# Altium integrated library CMR_ICs.IntLib: 74 symbols
Pins are listed as number, name and electrical type; pins without a type are passive.

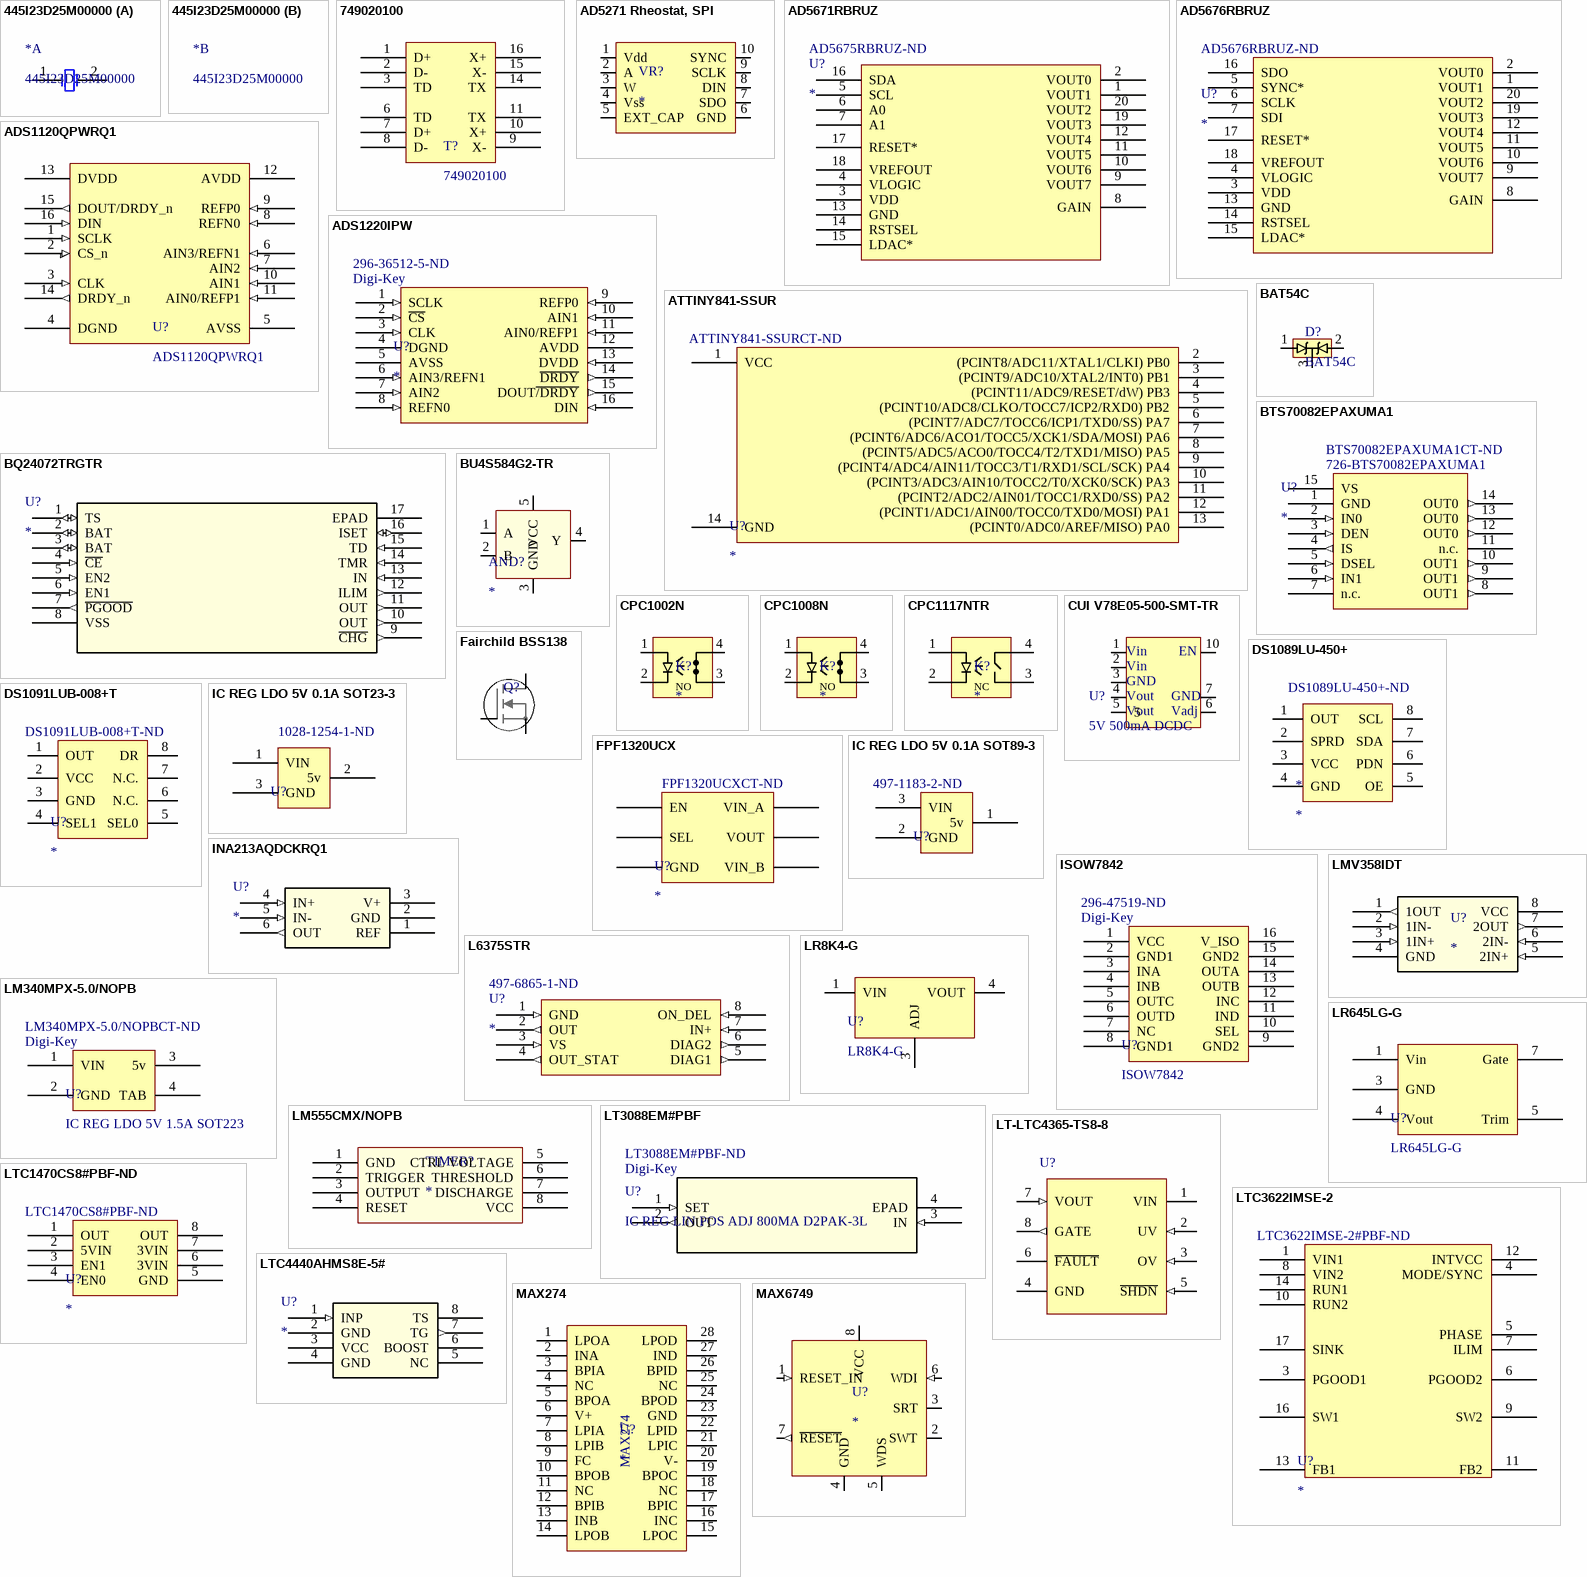
[diagram p0: symbols 445I23D25M00000 to MAX6749]

## 445I23D25M00000
designator *
CTS M445 2-SMT Crystal, 25MHz; Manufacturer: CTS-Frequency Controls; Supplier 1: Mouser; Supplier 2: Digi-Key; Supplier 3: Digi-Key; Supplier 4: Digi-Key; Frequency: 25 MHz; Part Number: 445I23D25M00000; Supplier 5: Digi-Key; Supplier 6: Mouser; Supplier 7: Digi-Key; Supplier 8: Digi-Key; Supplier Part Number 5: CTX1175TR-ND; Supplier Part Number 6: 774-445I23D25M00000; Supplier Part Number 7: CTX1175CT-ND; Supplier Part Number 8: CTX1175DKR-ND
footprint 445I23D25M00000 (2-SMD 5x3.2)
part A pins: 1, 2

## 749020100
designator T?
10/100/1000 SMD LAN Transformer; Manufacturer: Wurth; Part Number: 749020100; Supplier 1: Digi-Key; Supplier Part Number 1: 732-3268-1-ND
footprint 749020100 (10/100/1000 SMD LAN Transformer)
pins: 1 D+, 2 D-, 3 TD, 6 TD, 7 D+, 8 D-, 9 X-, 10 X+, 11 TX, 14 TX, 15 X-, 16 X+

## AD5271 Rheostat, SPI
designator VR?
100k Digital Rheostat, 256 Pos, 1% Tolerance; Part Number: AD5271BRMZ-100; Temp (C) (min): -40; Temp (C) (max): 125; Package: MSOP-10; Nominal Resistance: 100k; Datasheet URL: http://www.analog.com/media/en/technical-documentation/data-sheets/AD5270_5271.pdf; Supplier 1: Digi-Key; Supplier Part Number 1: AD5271BRMZ-100-ND
footprint 10-Lead MSOP (used for AD5271BRMZ)
pins: 1 Vdd (power), 2 A, 3 W, 4 Vss, 5 EXT_CAP, 6 GND (power), 7 SDO, 8 DIN, 9 SCLK, 10 SYNC

## AD5671RBRUZ
designator U?  Supplier Part Number 1: AD5675RBRUZ-ND
IC DAC 16BIT I2C/SRL 20TSSOP; Value: Value; Type: Type; RefDes: RefDes; Supplier 1: Digi-Key
footprint RU_20
pins: 1 VOUT1, 2 VOUT0, 3 VDD, 4 VLOGIC, 5 SCL, 6 A0, 7 A1, 8 GAIN, 9 VOUT7, 10 VOUT6, 11 VOUT5, 12 VOUT4, 13 GND, 14 RSTSEL, 15 LDAC*, 16 SDA, 17 RESET*, 18 VREFOUT, 19 VOUT3, 20 VOUT2

## AD5676RBRUZ
designator U?  Supplier Part Number 1: AD5676RBRUZ-ND
IC DAC 16BIT SPI 20TSSOP; Supplier 1: Digi-Key
footprint RU_20
pins: 1 VOUT1, 2 VOUT0, 3 VDD, 4 VLOGIC, 5 SYNC*, 6 SCLK, 7 SDI, 8 GAIN, 9 VOUT7, 10 VOUT6, 11 VOUT5, 12 VOUT4, 13 GND, 14 RSTSEL, 15 LDAC*, 16 SDO, 17 RESET*, 18 VREFOUT, 19 VOUT3, 20 VOUT2

## ADS1120QPWRQ1
designator U?
16 bit SPI controlled ADC; Manufacturer: Texas Instruments; Part Number: ADS1120QPWRQ1; Datasheet Link: http://www.ti.com/lit/ds/symlink/ads1120-q1.pdf; Supplier 1: Digi-Key; Supplier Part Number 1: 296-39850-1-ND
footprint TSOP65P640X120-16N (TSOP, 16-Leads, Body 5.00x4.40mm, Pitch 0.65mm, IPC Medium Density)
pins: 1 SCLK (in), 2 CS_n (in), 3 CLK (in), 4 DGND (power), 5 AVSS (power), 6 AIN3/REFN1 (in), 7 AIN2 (in), 8 REFN0 (in), 9 REFP0 (in), 10 AIN1 (in), 11 AIN0/REFP1 (in), 12 AVDD (power), 13 DVDD (power), 14 DRDY_n (out), 15 DOUT/DRDY_n (out), 16 DIN (in)

## ADS1220IPW
designator U?  Supplier 1: Digi-Key  Supplier Part Number 1: 296-36512-5-ND
footprint ADS1220IPW
pins: 1 SCLK (in), 2 ~{CS} (in), 3 CLK (in), 4 DGND (power), 5 AVSS (power), 6 AIN3/REFN1 (in), 7 AIN2 (in), 8 REFN0 (in), 9 REFP0 (in), 10 AIN1 (in), 11 AIN0/REFP1 (in), 12 AVDD (power), 13 DVDD (in), 14 ~{DRDY} (out), 15 DOUT~{/DRDY} (out), 16 DIN (in)

## ATTINY841-SSUR
designator U?  Supplier Part Number 1: ATTINY841-SSURCT-ND
IC MCU 8BIT 8KB FLASH 14SOIC; Supplier 1: Digi-Key
footprint SOIC127P600X175-14N-841 (SOIC, 14-Leads, Body 8.65x3.90mm, Pitch 1.27mm, IPC Medium Density)
pins: 1 VCC, 2 (PCINT8/ADC11/XTAL1/CLKI) PB0, 3 (PCINT9/ADC10/XTAL2/INT0) PB1, 4 (PCINT11/ADC9/RESET/dW) PB3, 5 (PCINT10/ADC8/CLKO/TOCC7/ICP2/RXD0) PB2, 6 (PCINT7/ADC7/TOCC6/ICP1/TXD0/SS) PA7, 7 (PCINT6/ADC6/ACO1/TOCC5/XCK1/SDA/MOSI) PA6, 8 (PCINT5/ADC5/ACO0/TOCC4/T2/TXD1/MISO) PA5, 9 (PCINT4/ADC4/AIN11/TOCC3/T1/RXD1/SCL/SCK) PA4, 10 (PCINT3/ADC3/AIN10/TOCC2/T0/XCK0/SCK) PA3, 11 (PCINT2/ADC2/AIN01/TOCC1/RXD0/SS) PA2, 12 (PCINT1/ADC1/AIN00/TOCC0/TXD0/MOSI) PA1, 13 (PCINT0/ADC0/AREF/MISO) PA0, 14 GND

## BAT54C
designator D?
Schottky Barrier Diode BAT54C; Temp (C) (min): -40; Temp (C) (max): 85; Package: SOT23; Datasheet URL: http://www.nxp.com/documents/data_sheet/BAT54_SER.pdf; Part Number: BAT54C; Supplier 1: Digi-Key; Supplier Part Number 1: 568-11590-1-ND
footprint SOT23 (used with BAT54C diode array)
pins: 1 Cathode Diode 1, 2 Cathode Diode 2, 3 Common

## BQ24072TRGTR
designator U?
Imported; Manufacturer: Texas Instruments; Manufacturer_Part_Number: BQ24072TRGTR; Built_By: EMA_UL_Team; C: Copyright (C) 2015 Accelerated Designs. All rights reserved; Vendor: Vendor; RefDes: RefDes; Type: DEV; Value: Value
footprint RGT16_1P7X1P7
pins: 1 TS (io), 2 BAT (io), 3 BAT (io), 4 ~{CE} (in), 5 EN2 (in), 6 EN1 (in), 7 ~{PGOOD} (out), 8 VSS (power), 9 ~{CHG} (out), 10 OUT (out), 11 OUT (out), 12 ILIM (out), 13 IN (in), 14 TMR (in), 15 TD (in), 16 ISET (io), 17 EPAD (power)

## BTS70082EPAXUMA1
designator U?  Supplier Part Number 1: 726-BTS70082EPAXUMA1  Supplier Part Number 2: BTS70082EPAXUMA1CT-ND
IC HIGH SIDE PWR SWITCH 14TSOP; Supplier 1: Mouser; Supplier 2: Digi-Key
footprint BTS70082EPAXUMA1CT (TSOP, 14-Leads, Body 4.90x3.90mm, Pitch 0.65mm, Thermal Pad 4.00x2.65mm, IPC Medium Density)
pins: 1 GND (power), 2 IN0 (in), 3 DEN (in), 4 IS (out), 5 DSEL (in), 6 IN1 (in), 7 n.c. (hiz), 8 OUT1 (out), 9 OUT1 (out), 10 OUT1 (out), 11 n.c. (hiz), 12 OUT0 (out), 13 OUT0 (out), 14 OUT0 (out), 15 VS (power)

## BU4S584G2-TR
designator AND?
footprint SOTFL95P280X125-5N (SOTFL, 5-Leads, Body 2.90x2.80mm, Pitch 0.95mm, IPC Medium Density)
pins: 1 A, 2 B, 3 GND, 4 Y, 5 VCC

## CPC1002N
designator K?
SPST NO SSR, 700mA / 60Vdc rated CPC1002N; Nominal Resistance: 550 mOhm; Temp (C) (min): -40; Temp (C) (max): 85; Package: SOP-4; Datasheet URL: http://www.ixysic.com/home/pdfs.nsf/www/CPC1002N.pdf/$file/CPC1002N.pdf; Part Number: CPC1002N; Supplier 1: Digi-Key; Supplier Part Number 1: CLA221-ND
footprint SOP4 (used for CPC1117N NC SSR)
pins: 1 CTRL+, 2 CTRL-, 3 Load_3, 4 LOAD_4
text: NO

## CPC1008N
designator K?
SPST NO SSR, 150mA / 100V rated CPC1008N; Nominal Resistance: 8; Temp (C) (min): -40; Temp (C) (max): 85; Package: SOP-4; Datasheet URL: http://www.clare.com/home/pdfs.nsf/www/CPC1008N.pdf/$file/CPC1008N.pdf; Supplier 1: Digi-Key; Supplier Part Number 1: CLA216CT-ND; Part Number: CPC1008N
footprint SOP4 (used for CPC1117N NC SSR)
pins: 1 CTRL+, 2 CTRL-, 3 Load_3, 4 LOAD_4
text: NO

## CPC1117NTR
designator K?
SPST NC SSR, 150mA / 60V rated CPC1117NTR; Nominal Resistance: 16; Temp (C) (min): -40; Temp (C) (max): 85; Package: SOP-4; Datasheet URL: http://www.clare.com/home/pdfs.nsf/www/CPC1117N.pdf/$file/CPC1117N.pdf; Supplier 1: Digi-Key; Supplier Part Number 1: CLA268CT-ND; Part Number: CPC1117NTR
footprint SOP4 (used for CPC1117N NC SSR)
pins: 1 CTRL+, 2 CTRL-, 3 Load_3, 4 LOAD_4
text: NC

## CUI V78E05-500-SMT-TR
designator U?, comment 5V 500mA DCDC
5V 500mA DCDC Module; ComponentLink1Description: digikey; ComponentLink1URL: https://www.digikey.com/product-detail/en/cui-inc/V78E05-500-SMT-TR/102-5025-1-ND/9649676
footprint V78E05-500-SMT-TR
pins: 1, 2, 3, 4, 5, 6, 7, 10
text: Vin; EN; GND; Vout; Vadj

## DS1089LU-450+
designator *  Supplier Part Number 1: DS1089LU-450+-ND
IC ECONOSCILL 3.3V SS 8-USOP; Manufacturer: Maxim Integrated; Manufacturer Part Number: DS1089LU-450+; PLL: No; Input: Clock; Number of Circuits: 1; Ratio - Input:Output: 1:1; Differential - Input:Output: No/No; Frequency - Max: 50MHz; Divider/Multiplier: Yes/No; Voltage - Supply: 2.7 V ~ 3.6 V; Supplier 1: Digi-Key; RoHS: RoHS Compliant; Category: Integrated Circuits (ICs); Stock 1: 43; Pricing 1: 1=1.86, 10=1.767, 25=1.46, 50=1.387, 250=1.33948, 1000=1.13832 (USD); Packaging: Tube; Part Status: Active; Type: Clock Generator; Output: Clock; Operating Temperature: -40°C ~ 85°C; Mounting Type: Surface Mount; Package / Case: 8-TSSOP, 8-MSOP (0.118", 3.00mm Width); Supplier Device Package: 8-uMAX; ComponentLink1URL: http://datasheets.maximintegrated.com/en/ds/DS1089L.pdf; ComponentLink1Description: http://datasheets.maximintegrated.com/en/ds/DS1089L.pdf
footprint TSOP65P490X110-8L (TSOP, 8-Leads, Body 3.00x3.00mm, Pitch 0.65mm, IPC High Density)
pins: 1 OUT, 2 SPRD, 3 VCC, 4 GND, 5 OE, 6 PDN, 7 SDA, 8 SCL

## DS1091LUB-008+T
designator U?  Supplier Part Number 1: DS1091LUB-008+T-ND
IC ECONOSCILLATOR SS 8USOP; Supplier 1: Digi-Key
footprint TSOP65P490X110-8L (TSOP, 8-Leads, Body 3.00x3.00mm, Pitch 0.65mm, IPC High Density)
pins: 1 OUT, 2 VCC, 3 GND, 4 SEL1, 5 SEL0, 6 N.C., 7 N.C., 8 DR

## Fairchild BSS138
designator Q?
N-channel MOSFET, logic level
footprint SOT-23-Fairchild
pins: D, G, S
1 alternate drawing of the same symbol

## FPF1320UCX
designator U?  Supplier Part Number 1: FPF1320UCXCT-ND
IC ADVANCED POWER SWITCH 6WLCSP; Supplier 1: Digi-Key
footprint BGA6C50P2X3_96X146X54 (BGA, 6-Leads, Body 0.96x1.46mmx0.54mm, Pitch 0.50mm)
pins: A1 EN, A2 VIN_A, B1 SEL, B2 VOUT, C1 GND, C2 VIN_B

## IC REG LDO 5V 0.1A SOT23-3
designator U?  Supplier Part Number 1: 1028-1254-1-ND  (hidden comment: IC REG LDO 5V 0.1A SOT23-3)
Supplier 1: Digi-Key
footprint SOT95P245X130-3N (SOT23, 3-Leads, Body 2.90x2.45mm, Pitch 0.95mm, IPC Medium Density)
pins: 1 VIN, 2 5v, 3 GND

## IC REG LDO 5V 0.1A SOT89-3
designator U?  Supplier Part Number 1: 497-1183-2-ND  (hidden comment: IC REG LDO 5V 0.1A SOT89-3)
Supplier 1: Digi-Key
footprint SOT89-150P409X160-3N (SOT89, 3-Leads, Body 4.50x2.45mm, Pitch 1.50mm, Lead Span 4.1mm, IPC Medium Density)
pins: 1 5v, 2 GND, 3 VIN

## INA213AQDCKRQ1
designator U?
INA213AQDCKRQ1 50V/V isense; Manufacturer: Texas Instruments; Built_By: EMA_UL_Team; C: Copyright (C) 2015 Accelerated Designs. All rights reserved; Vendor: Texas Instruments; Manufacturer_Part_Number: INA213AQDCKRQ1; RefDes: RefDes; Type: DEV; Value: Value
footprint DCK6
pins: 1 REF (power), 2 GND (power), 3 V+ (power), 4 IN+ (in), 5 IN- (in), 6 OUT (out)

## ISOW7842
designator U?  Supplier 1: Digi-Key  Supplier Part Number 1: 296-47519-ND
High-Efficiency, Low-Emissions, Reinforced Digital Isolator With Integrated Power; Part Number: TXB0106; Part Creator: dgorzigl; Datasheet: http://www.ti.com/lit/ds/symlink/txb0106.pdf
footprint ISOW7842
pins: 1 VCC, 2 GND1, 3 INA, 4 INB, 5 OUTC, 6 OUTD, 7 NC, 8 GND1, 9 GND2, 10 SEL, 11 IND, 12 INC, 13 OUTB, 14 OUTA, 15 GND2, 16 V_ISO

## L6375STR
designator U?  Supplier Part Number 1: 497-6865-1-ND
IC DRIVER HI SIDE 0.5A IPS 8SOIC; Supplier 1: Digi-Key; ComponentLink1Description: DIgikey Link; ComponentLink1URL: https://www.digikey.com/product-detail/en/stmicroelectronics/L6375STR/497-6865-1-ND/1880244
footprint SOIC127P600X175-8N (SOIC, 8-Leads, Body 4.90x3.90mm, Pitch 1.27mm, IPC Medium Density)
pins: 1 GND (in), 2 OUT (out), 3 VS (in), 4 OUT_STAT (out), 5 DIAG1 (out), 6 DIAG2 (out), 7 IN+ (in), 8 ON_DEL (in)

## LM340MPX-5.0/NOPB
designator U?, comment IC REG LDO 5V 1.5A SOT223  Supplier 1: Digi-Key  Supplier Part Number 1: LM340MPX-5.0/NOPBCT-ND
SOT223 5V 1.5A Linear Regulator; ComponentLink1Description: Digikey Link; ComponentLink1URL: https://www.digikey.com/product-detail/en/texas-instruments/LM340MPX-5.0-NOPB/LM340MPX-5.0-NOPBCT-ND/3526959
footprint IC REG LDO 5V 1.5A SOT223 (Linear Voltage Regulator IC Positive Fixed 1 Output 5V 1.5A SOT-223-4)
pins: 1 VIN, 2 GND, 3 5v, 4 TAB

## LM555CMX/NOPB
designator TIMER?
footprint SOIC127P600X175-8N (SOIC, 8-Leads, Body 4.90x3.90mm, Pitch 1.27mm, IPC Medium Density)
pins: 1 GND, 2 TRIGGER, 3 OUTPUT, 4 RESET, 5 CTRL VOLTAGE, 6 THRESHOLD, 7 DISCHARGE, 8 VCC

## LMV358IDT
designator U?
IC OPAMP GP 1.3MHZ 8SO; Manufacturer: STMicroelectronics; Manufacturer_Part_Number: LMV358IDT; Vendor: Digikey; Supplier Part Number: 497-4945-2-ND
footprint SOIC-8
pins: 1 1OUT (out), 2 1IN- (in), 3 1IN+ (in), 4 GND (power), 5 2IN+ (in), 6 2IN- (in), 7 2OUT (out), 8 VCC (power)

## LR8K4-G
designator U?
SMPS Startup Regulator; Manufacturer: Microchip Technology; Voltage-Input: 13.2-450V; Voltage - Output: 1.2-438V; Current - Output: 30mA; Part Number: LR8K4-G; Supplier 1: Digi-Key; Supplier Part Number 1: LR8K4-GCT-ND
footprint TO-252 (D-PAK)
pins: 1 VIN, 3 ADJ, 4 VOUT

## LR645LG-G
designator U?
SMPS Startup Regulator; Manufacturer: Microchip Technology; Voltage-Input: 15-450V; Voltage - Output: 8-12V; Current - Output: 3mA; Part Number: LR645LG-G; Supplier 1: Digi-Key; Supplier Part Number 1: LR645LG-GCT-ND
footprint SOP127P600X175-8N (SOP, 8-Leads, Body 4.90x3.90mm, Pitch 1.27mm, IPC Medium Density)
pins: 1 Vin, 3 GND, 4 Vout, 5 Trim, 7 Gate

## LT3088EM#PBF
designator U?, comment IC REG LIN POS ADJ 800MA D2PAK-3L  Supplier 1: Digi-Key  Supplier Part Number 1: LT3088EM#PBF-ND
Linear Voltage Regulator IC Positive Adjustable 1 Output 0 V ~ 34.5 V 800mA D2PAK-3; Manufacturer_Part_Number: LT3088EM#PBF; Vendor: Linear Technology; Built_By: EMA_UL_Team; RefDes: RefDes; Type: DEV; Value: Value; ComponentLink1Description: Digikey Link; ComponentLink1URL: https://www.digikey.com/product-detail/en/linear-technology-analog-devices/LT3088EM-PBF/LT3088EM-PBF-ND/5297581
footprint DDPAK-3_M
pins: 1 SET (in), 2 OUT (out), 3 IN (in), 4 EPAD

## LT-LTC4365-TS8-8
designator U?
IC, Overvoltage Protection, Undervoltage Protection; Supplier 1: Digi-Key; Supplier 2: Digi-Key; Supplier 3: Digi-Key; Supplier Part Number 1: LTC4365ITS8-1#TRMPBFCT-ND; Supplier Part Number 2: LTC4365ITS8-1#TRMPBFDKR-ND; Supplier Part Number 3: LTC4365ITS8-1#TRMPBFTR-ND
footprint LT-TS8-8-TSOT-23_V (SOT23, 8-Leads, Body 2.90x1.63mm, Pitch 0.65mm, Recommended)
pins: 1 VIN (power) "Power Supply Input. Maximum protection range: -40V to 60V. Operating range: 2.5V to 34V.", 2 UV (in) "Undervoltage Comparator Input. Connect this pin to an external resistive divider to set the desired VIN undervoltage fault threshold. Input to an accurate, fast (1us) comparator with a 0.5V falling threshold and 25mV of (See Datasheet)", 3 OV (in) "Overvoltage Comparator Input. Connect this pin to an external resistive divider to set the desired VIN overvoltage fault threshold. Input to an accurate, fast (1us) comparator with a 0.5V rising threshold and 25mV of (See Datasheet)", 4 GND (power) "Device Ground", 5 ~{SHDN} (in) "Shutdown Control Input. S\H\D\N\ high enables the GATE charge pump which in turn enhances the gate of an external N-channel MOSFET. A low on S\H\D\N\ generates a pull down on the GATE output with a 90uA current sink and (See Datasheet)", 6 ~{FAULT} (oc) "Fault Indication Output. This high voltage open drain output is pulled low if UV is below its monitor threshold, if OV is above its monitor threshold, if S\H\D\N\ is low, or if VIN has not risen above VIN(UVLO).", 7 VOUT (in) "Output Voltage Sense Input. This pin senses the voltage at the output side of the external N-channel MOSFET. The GATE charge pump voltage is referenced to VOUT. It is used as the charge pump input when VOUT is greater than (See Datasheet)", 8 GATE (out) "Gate Drive Output for External N-channel MOSFETs. An internal charge pump provides 20uA of pull-up current and up to 9.8V of enhancement to the gate of an external N-channel MOSFET When turned off, GATE is pulled just below (See Datasheet)"

## LTC1470CS8#PBF-ND
designator U?  Supplier Part Number 1: LTC1470CS8#PBF-ND
IC SWTCH PCMCIA3.3V/5V SNGL8SOIC; Supplier 1: Digi-Key
footprint SOIC127P600X175-8N-L (SOIC, 8-Leads, Body 4.90x3.90mm, Pitch 1.27mm, IPC Medium Density)
pins: 1 OUT, 2 5VIN, 3 EN1, 4 EN0, 5 GND, 6 3VIN, 7 3VIN, 8 OUT

## LTC3622IMSE-2
designator U?  Supplier Part Number 1: LTC3622IMSE-2#PBF-ND
IC REG BCK 3.3V/5V 1A SYNC 14DFN; Supplier 1: Digi-Key
footprint LT-MSE-16-EDP_L (SOP, 16-Leads, Body 4.1x3.1mm, Pitch 0.5mm, Thermal Pad 2.95x1.76mm, IPC High Density)
pins: 1 VIN1, 3 PGOOD1, 4 MODE/SYNC, 5 PHASE, 6 PGOOD2, 7 ILIM, 8 VIN2, 9 SW2, 10 RUN2, 11 FB2, 12 INTVCC, 13 FB1, 14 RUN1, 16 SW1, 17 SINK

## LTC4440AHMS8E-5#
designator U?
https://www.digikey.com/product-detail/en/linear-technology-analog-devices/LTC4440AHMS8E-5-PBF/LTC4440AHMS8E-5-PBF-ND/4437928; Manufacturer_Part_Number: LTC4440AHMS8E-5#PBF; Vendor: Linear Technology; Built_By: EMA_UL_Team; RefDes: RefDes; Type: DEV; Value: Value
footprint MSOP-8_MS
pins: 1 INP (in), 2 GND (power), 3 VCC (power), 4 GND (power), 5 NC, 6 BOOST, 7 TG (out), 8 TS

## MAX274
designator U?
footprint SOP28W
pins: 1 LPOA, 2 INA, 3 BPIA, 4 NC, 5 BPOA, 6 V+, 7 LPIA, 8 LPIB, 9 FC, 10 BPOB, 11 NC, 12 BPIB, 13 INB, 14 LPOB, 15 LPOC, 16 INC, 17 BPIC, 18 NC, 19 BPOC, 20 V-, 21 LPIC, 22 LPID, 23 GND, 24 BPOD, 25 NC, 26 BPID, 27 IND, 28 LPOD

## MAX6749
designator U?
uP Supervisor / Watchdog, MAX6749; Temp (C) (min): -40; Temp (C) (max): 125; Package: SOT23; Datasheet URL: http://datasheets.maximintegrated.com/en/ds/MAX6746-MAX6753.pdf; Supplier 1: Digi-Key; Supplier Part Number 1: MAX6749KA+TCT-ND
footprint 8 SOT23 (used for MAX6749)
pins: 1 RESET_IN (in), 2 SWT, 3 SRT, 4 GND (power), 5 WDS (power), 6 WDI (in), 7 ~{RESET} (out), 8 VCC (power)

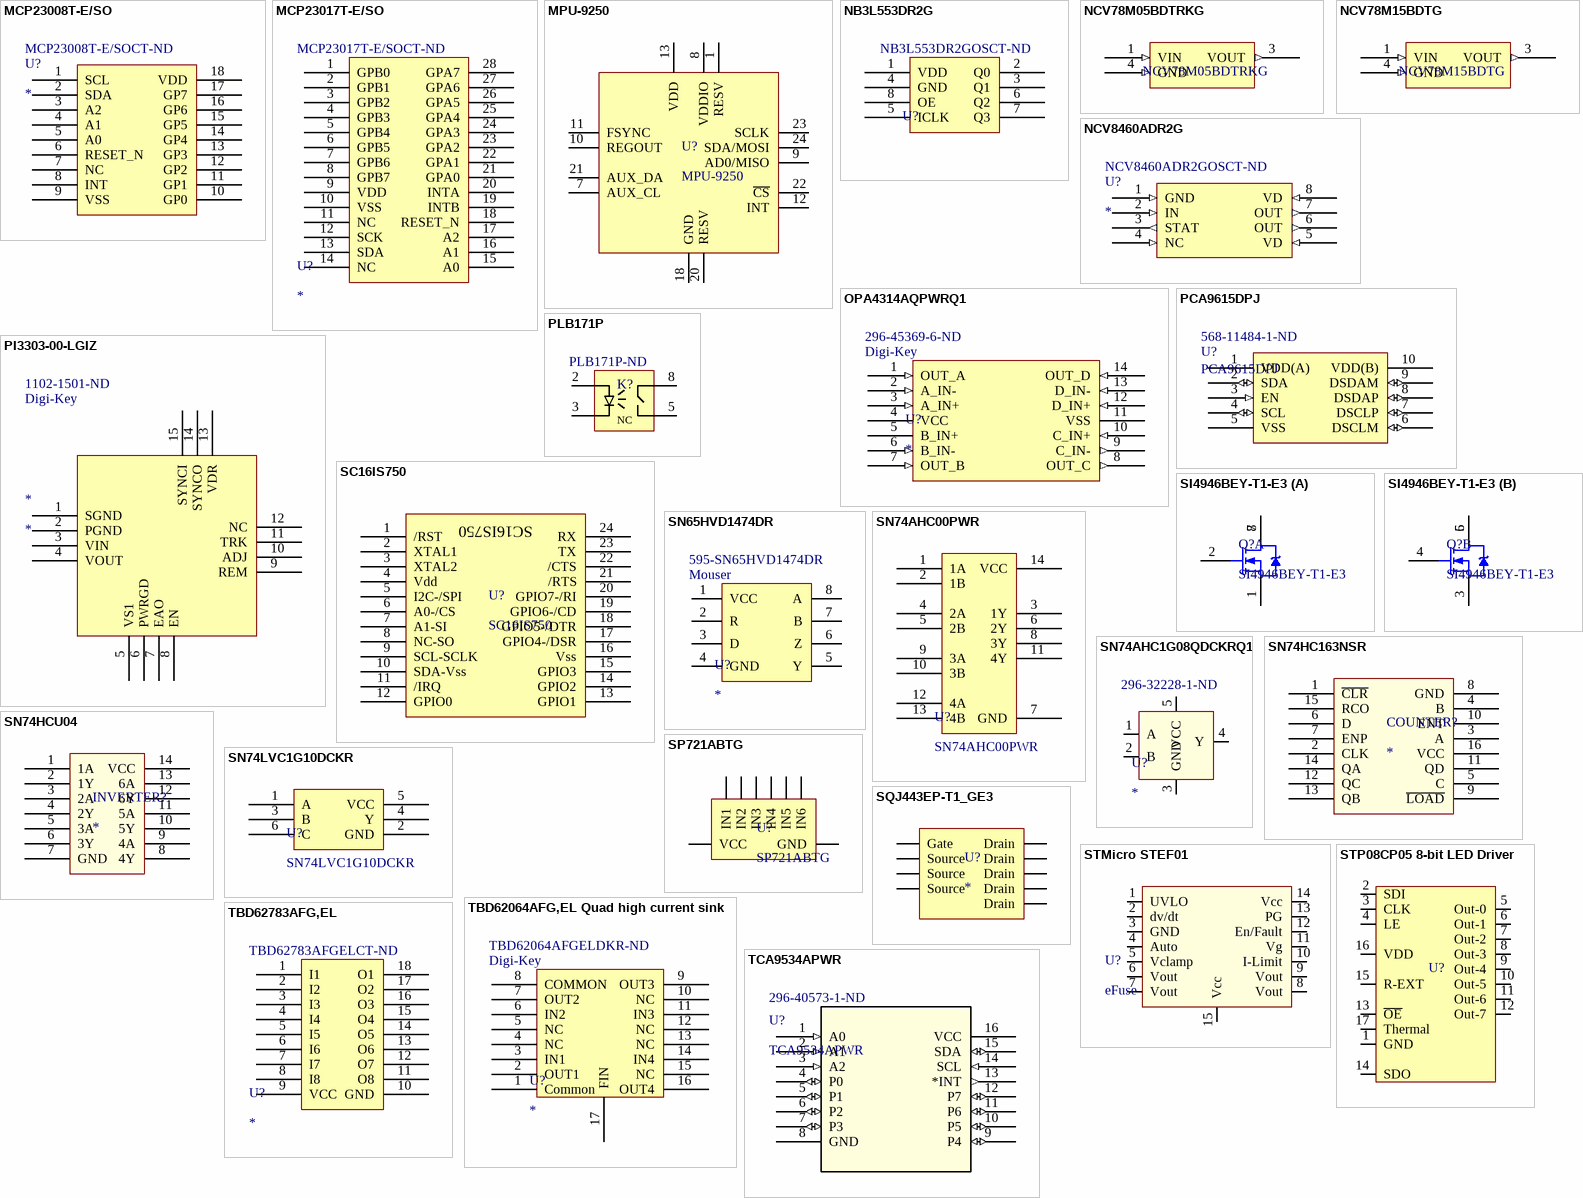
[diagram p1: symbols MCP23008T-E/SO to TCA9534APWR]

## MCP23008T-E/SO
designator U?  Supplier Part Number 1: MCP23008T-E/SOCT-ND
IC I/O EXPANDER I2C 8B 18SOIC; Supplier 1: Digi-Key
footprint SOIC127P1030X265-18N (SOIC, 18-Leads, Body 11.55x7.50mm, Pitch 1.27mm, IPC Medium Density)
pins: 1 SCL, 2 SDA, 3 A2, 4 A1, 5 A0, 6 RESET_N, 7 NC, 8 INT, 9 VSS, 10 GP0, 11 GP1, 12 GP2, 13 GP3, 14 GP4, 15 GP5, 16 GP6, 17 GP7, 18 VDD

## MCP23017T-E/SO
designator U?  Supplier Part Number 1: MCP23017T-E/SOCT-ND
IC I/O EXPANDER I2C 16B 28SOIC; Supplier 1: Digi-Key
footprint SOIC127P1030X265-28N (SOIC, 28-Leads, Body 17.90x7.50mm, Pitch 1.27mm, IPC Medium Density)
pins: 1 GPB0, 2 GPB1, 3 GPB2, 4 GPB3, 5 GPB4, 6 GPB5, 7 GPB6, 8 GPB7, 9 VDD, 10 VSS, 11 NC, 12 SCK, 13 SDA, 14 NC, 15 A0, 16 A1, 17 A2, 18 RESET_N, 19 INTB, 20 INTA, 21 GPA0, 22 GPA1, 23 GPA2, 24 GPA3, 25 GPA4, 26 GPA5, 27 GPA6, 28 GPA7

## MPU-9250
designator U?
InvenSense MPU-9250 9-axis IMU; Component Author: semerson; Datasheet: http://43zrtwysvxb2gf29r5o0athu.wpengine.netdna-cdn.com/wp-content/uploads/2015/02/MPU-9250-Datasheet.pdf; Manufacturer: InvenSense; Supplier 1: Digi-Key; Supplier Part Number 1: 1428-1019-1-ND
footprint MPU-9250 (InvenSense MPU-9250 9-axis IMU)
pins: 1 RESV, 7 AUX_CL, 8 VDDIO, 9 AD0/MISO, 10 REGOUT, 11 FSYNC, 12 INT, 13 VDD, 18 GND, 20 RESV, 21 AUX_DA, 22 ~{CS}, 23 SCLK, 24 SDA/MOSI

## NB3L553DR2G
designator U?  Supplier Part Number 1: NB3L553DR2GOSCT-ND
IC CLK BUFFER 1:4 200MHZ 8SOIC; Supplier 1: Digi-Key
footprint SOIC127P600X175-8N-L (SOIC, 8-Leads, Body 4.90x3.90mm, Pitch 1.27mm, IPC Medium Density)
pins: 1 VDD, 2 Q0, 3 Q1, 4 GND, 5 ICLK, 6 Q2, 7 Q3, 8 OE

## NCV78M05BDTRKG
designator NCV78M05BDTRKG  (value not drawn)
http://www.onsemi.com/pub/Collateral/MC78M00-D.PDF; Manufacturer p#: NCV78M05BDTRKG; Voltage in: <35V; Voltage out: 5V; Supplier: Digikey; Supplier p#: NCV78M05BDTRKGOSCT-ND
footprint TO-252 (D-PAK)
pins: 1 VIN (in), 3 VOUT (out), 4 GND (in)

## NCV78M15BDTG
designator NCV78M15BDTG  (value not drawn)
http://www.onsemi.com/pub/Collateral/MC78M00-D.PDF; Manufacturer p#: NCV78M15BDTG; Voltage in: <35V; Voltage out: 15V; Supplier: Digikey; Supplier p#: NCV78M15BDTG-ND
footprint TO-252 (D-PAK)
pins: 1 VIN (in), 3 VOUT (out), 4 GND (in)

## NCV8460ADR2G
designator U?  Supplier Part Number 1: NCV8460ADR2GOSCT-ND
IC DRIVER HIGH SIDE 8SOIC; ComponentLink1Description: Digikey Link; ComponentLink1URL: https://www.digikey.com/product-detail/en/on-semiconductor/NCV8460ADR2G/NCV8460ADR2GOSCT-ND/5969028; Supplier 1: Digi-Key
footprint SOIC127P600X175-8N (SOIC, 8-Leads, Body 4.90x3.90mm, Pitch 1.27mm, IPC Medium Density)
pins: 1 GND (in), 2 IN (in), 3 STAT (out), 4 NC (in), 5 VD (in), 6 OUT (out), 7 OUT (out), 8 VD (in)

## OPA4314AQPWRQ1
designator U?  Supplier 1: Digi-Key  Supplier Part Number 1: 296-45369-6-ND
IC OP AMP GP RR 3MHZ 14TSSOP; ComponentLink1Description: Digikey Link; ComponentLink1URL: https://www.digikey.com/product-detail/en/texas-instruments/OPA4314AQPWRQ1/296-45369-1-ND/6618324
footprint OPA4314AQPWRQ1
pins: 1 OUT_A (in), 2 A_IN- (in), 3 A_IN+ (in), 4 VCC (power), 5 B_IN+ (power), 6 B_IN- (in), 7 OUT_B (in), 8 OUT_C (out), 9 C_IN- (out), 10 C_IN+ (in), 11 VSS (power), 12 D_IN+ (in), 13 D_IN- (in), 14 OUT_D (in)

## PCA9615DPJ
designator U?  Supplier Part Number 1: 568-11484-1-ND
IC REDRIVER I2C 2CH 10TSSOP; Supplier 1: Digi-Key
footprint TSSOP50P490X110-10N (TSSOP, 10-Leads, Body 3.00x3.00mm, Pitch 0.50mm, IPC Medium Density)
pins: 1 VDD(A) (power), 2 SDA (io), 3 EN (in), 4 SCL (io), 5 VSS (power), 6 DSCLM (io), 7 DSCLP (io), 8 DSDAP (io), 9 DSDAM (io), 10 VDD(B) (power)

## PI3303-00-LGIZ
designator *  Supplier 1: Digi-Key  Supplier Part Number 1: 1102-1501-ND
footprint LGA123C100P14X10_1400X1000X260 (LGA, 123-Leads, Body 14.00x10.00mmx2.60mm, Pitch 1.00mm)
pins: 1 SGND, 2 PGND, 3 VIN, 4 VOUT, 5 VS1, 6 PWRGD, 7 EAO, 8 EN, 9 REM, 10 ADJ, 11 TRK, 12 NC, 13 VDR, 14 SYNCO, 15 SYNCI

## PLB171P
designator K?  Supplier Part Number 1: PLB171P-ND
SSR RELAY SPST-NC 80MA 0-800V; Value: Value; Type: Type; RefDes: RefDes; Supplier 1: Digi-Key
footprint PLB171P (SOP, 8-Leads, Body 9.65x6.35mm, Pitch 2.54mm, IPC Medium Density)
pins: 2 CTRL+, 3 CTRL-, 5 Load_3, 8 LOAD_4
text: NC

## SC16IS750
designator U?
SPI -> UART; Source Part Number: 568-2234-ND; Manufacturer: NXP Semiconductors; Manufacturer Part Number: SC16IS750IBS,151; Source: Digikey
footprint SC16IS750IBS (SPI->UART)
pins: 1 /RST, 2 XTAL1, 3 XTAL2, 4 Vdd, 5 I2C-/SPI, 6 A0-/CS, 7 A1-SI, 8 NC-SO, 9 SCL-SCLK, 10 SDA-Vss, 11 /IRQ, 12 GPIO0, 13 GPIO1, 14 GPIO2, 15 GPIO3, 16 Vss, 17 GPIO4-/DSR, 18 GPIO5-/DTR, 19 GPIO6-/CD, 20 GPIO7-/RI, 21 /RTS, 22 /CTS, 23 TX, 24 RX

## SI4946BEY-T1-E3
designator Q?
Dual N-Channel FET, Power, Logic Level Gate; Currrent: 6.5A; Vgs(th): 3V; Vds(max): 60V; Supplier 1: Mouser; Supplier 2: Digi-Key; Supplier 3: Digi-Key; Supplier 4: Digi-Key; Supplier Part Number 1: 781-SI4946BEY-E3; Supplier Part Number 2: SI4946BEY-T1-E3TR-ND; Supplier Part Number 3: SI4946BEY-T1-E3CT-ND; Supplier Part Number 4: SI4946BEY-T1-E3DKR-ND
footprint SOIC-8
part A pins: 1 SOURCE1, 2 GATE1, 7 DRAIN1, 8 DRAIN1
part B pins: 3 SOURCE2, 4 GATE2, 5 DRAIN2, 6 DRAIN2

## SN65HVD1474DR
designator U?  Supplier 1: Mouser  Supplier Part Number 1: 595-SN65HVD1474DR
RS-485 Interface IC 3.3V Full Dup RS-485 16kV IEC ESD, 20Mbps
footprint SN65HVD1474DR
pins: 1 VCC, 2 R, 3 D, 4 GND, 5 Y, 6 Z, 7 B, 8 A

## SN74AHC00PWR
designator U?
Quad 2 input NAND gate; Manufacturer: Texas Instruments; Part Number: SN74AHC00PWR; Supplier 1: Digi-Key
footprint TSSOP14
pins: 1 1A, 2 1B, 3 1Y, 4 2A, 5 2B, 6 2Y, 7 GND, 8 3Y, 9 3A, 10 3B, 11 4Y, 12 4A, 13 4B, 14 VCC

## SN74AHC1G08QDCKRQ1
designator U?  Supplier Part Number 1: 296-32228-1-ND
2 Input Schmitt Trigger AND Gate; Part Number: SN74AHC1G08QDCKRQ1; Datasheet URL: http://www.ti.com/lit/ds/symlink/sn74ahc1g08-q1.pdf; Supplier 1: Digi-Key
footprint SC-70-5 (Used for 2 input and gate)
pins: 1 A, 2 B, 3 GND, 4 Y, 5 VCC

## SN74HC163NSR
designator COUNTER?
footprint SOIC127P600X175-16N (SOIC, 16-Leads, Body 9.90x3.90mm, Pitch 1.27mm, IPC Medium Density)
pins: 1 ~{CLR}, 2 CLK, 3 A, 4 B, 5 C, 6 D, 7 ENP, 8 GND, 9 ~{LOAD}, 10 ENT, 11 QD, 12 QC, 13 QB, 14 QA, 15 RCO, 16 VCC

## SN74HCU04
designator INVERTER?
footprint SOIC127P600X175-14N (SOIC, 14-Leads, Body 8.65x3.90mm, Pitch 1.27mm, IPC Medium Density)
pins: 1 1A, 2 1Y, 3 2A, 4 2Y, 5 3A, 6 3Y, 7 GND, 8 4Y, 9 4A, 10 5Y, 11 5A, 12 6Y, 13 6A, 14 VCC

## SN74LVC1G10DCKR
designator U?
3 input NAND gate; Manufacturer: Texas Instruments; Part Number: SN74LVC1G10DCKR; Supplier 1: Digi-Key
footprint TSSOP6
pins: 1 A, 2 GND, 3 B, 4 Y, 5 VCC, 6 C

## SP721ABTG
designator U?
TVS Diode Array, 6 input, 30V; Manufacturer: Littelfuse, Inc; Datasheet: http://www.littelfuse.com/~/media/electronics/datasheets/tvs_diode_arrays/littelfuse_tvs_diode_array_sp721_datasheet.pdf.pdf; Manufacturer Part Number: SP721ABTG; Supplier 1: Digi-Key; Supplier Part Number 1: F3163CT-ND
footprint SOIC-8
pins: 1 IN1, 2 IN2, 3 IN3, 4 GND, 5 IN4, 6 IN5, 7 IN6, 8 VCC

## SQJ443EP-T1_GE3
designator U?
MOSFET P-CH 40V 40A POWERPAKSO-8; Manufacturer: Vishay Siliconix; Manufacturer Part Number: SQJ443EP-T1_GE3; Supplier: Digikey; Max current: 40A; Supplier Part Number: SQJ443EP-T1_GE3CT-ND
footprint TRANS_SQJ461EP-T1-GE3
pins: 1 Gate, 2 Source, 3 Source, 4 Source, 5 Drain, 6 Drain, 7 Drain, 8 Drain, 9 Drain

## STMicro STEF01
designator U?, comment eFuse
Electronic Fuse Regulator 4A 14-HTSSOP; ComponentLink1Description: digikey; ComponentLink1URL: https://www.digikey.com/product-detail/en/stmicroelectronics/STEF01FTR/497-17779-1-ND/8321893
footprint TSOP65P640X120_HS-15N (TSOP, 14-Leads, Body 5.00x4.40mm, Pitch 0.65mm, Thermal Pad 3.20x3.20mm, IPC Medium Density)
pins: 1 UVLO, 2 dv/dt, 3 GND, 4 Auto, 5 Vclamp, 6 Vout, 7 Vout, 8 Vout, 9 Vout, 10 I-Limit, 11 Vg, 12 En/Fault, 13 PG, 14 Vcc, 15 Vcc

## STP08CP05 8-bit LED Driver
designator U?  (value not drawn)
footprint HTSSOP-16 Exposed Pad
pins: 1 GND, 2 SDI, 3 CLK, 4 LE, 5 Out-0, 6 Out-1, 7 Out-2, 8 Out-3, 9 Out-4, 10 Out-5, 11 Out-6, 12 Out-7, 13 ~{OE}, 14 SDO, 15 R-EXT, 16 VDD, 17 Thermal

## TBD62064AFG,EL Quad high current sink
designator U?  Supplier 1: Digi-Key  Supplier Part Number 1: TBD62064AFGELDKR-ND
4channel high current sink type DMOS transistor array; ComponentLink1Description: Digikey; ComponentLink1URL: https://www.digikey.com/product-detail/en/toshiba-semiconductor-and-storage/TBD62064AFGEL/TBD62064AFGELCT-ND/6022000
footprint HSOP16
pins: 1 Common, 2 OUT1, 3 IN1, 4 NC, 5 NC, 6 IN2, 7 OUT2, 8 COMMON, 9 OUT3, 10 NC, 11 IN3, 12 NC, 13 NC, 14 IN4, 15 NC, 16 OUT4, 17 FIN

## TBD62783AFG,EL
designator U?  Supplier Part Number 1: TBD62783AFGELCT-ND
IC LOAD SWITCH 8CH 0.5A 18SOP; Supplier 1: Digi-Key
footprint SOP127P1030X245-18N (SOP, 18-Leads, Body 12.50x7.00mm, Pitch 1.27mm, IPC Medium Density)
pins: 1 I1, 2 I2, 3 I3, 4 I4, 5 I5, 6 I6, 7 I7, 8 I8, 9 VCC, 10 GND, 11 O8, 12 O7, 13 O6, 14 O5, 15 O4, 16 O3, 17 O2, 18 O1

## TCA9534APWR
designator U?  Supplier Part Number 1: 296-40573-1-ND
IC I/O EXPANDER I2C 8B 16TSSOP; Vendor: Texas Instruments; Built_By: EMA_UL_Team; C: Copyright (C) 2016 Accelerated Designs. All rights reserved; Manufacturer_Part_Number: TCA9534APWR; RefDes: RefDes; Type: DEV; Value: Value; Supplier 1: Digi-Key
footprint PW16
pins: 1 A0 (in), 2 A1 (in), 3 A2 (in), 4 P0 (io), 5 P1 (io), 6 P2 (io), 7 P3 (io), 8 GND (power), 9 P4 (io), 10 P5 (io), 11 P6 (io), 12 P7 (io), 13 *INT (out), 14 SCL (in), 15 SDA (io), 16 VCC (power)

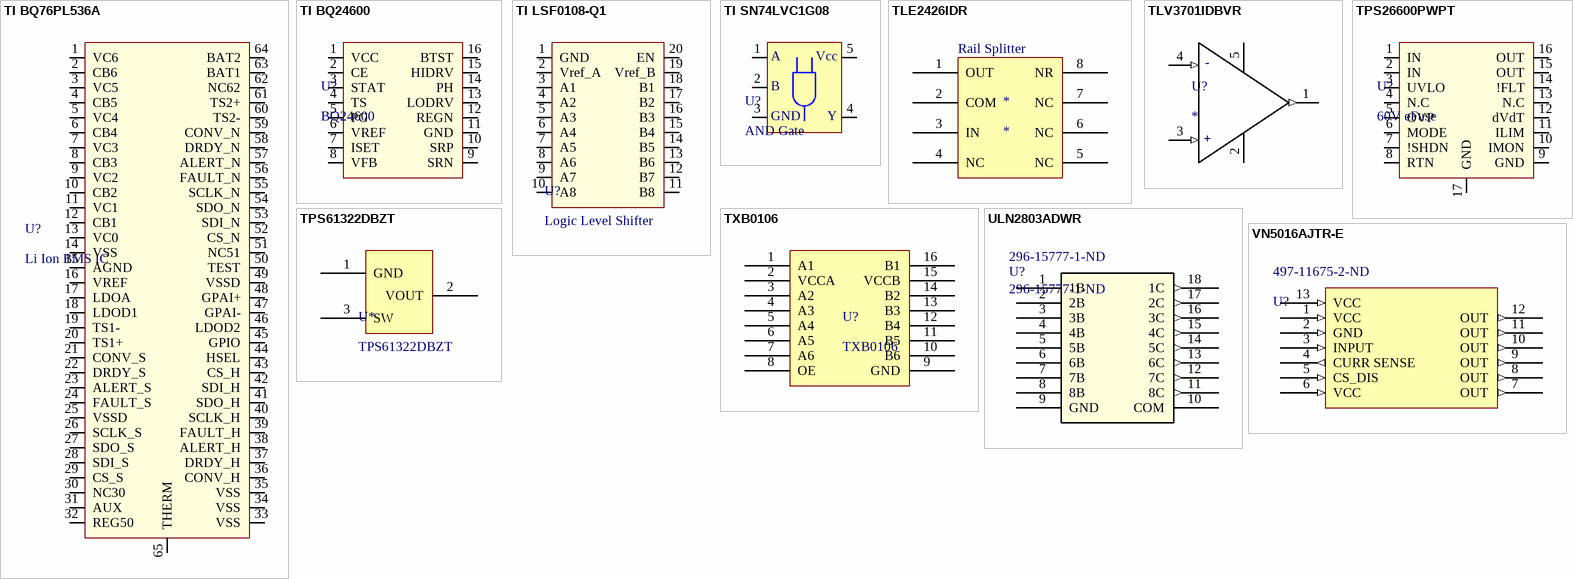
[diagram p2: symbols TI BQ76PL536A to VN5016AJTR-E]

## TI BQ76PL536A
designator U?, comment Li Ion BMS IC
Battery Multi-Function Controller IC Lithium-Ion 64-HTQFP (10x10); ComponentLink1Description: digikey; ComponentLink1URL: https://www.digikey.com/product-detail/en/texas-instruments/BQ76PL536TPAPRQ1/296-28567-1-ND/2650637
footprint TSQFP50P1200X1200X120_HS-65N (TSQFP, 64-Leads, Body 10.00x10.00mm, Pitch 0.50mm, Thermal Pad 6.50x6.50mm, IPC Medium Density)
pins: 1 VC6, 2 CB6, 3 VC5, 4 CB5, 5 VC4, 6 CB4, 7 VC3, 8 CB3, 9 VC2, 10 CB2, 11 VC1, 12 CB1, 13 VC0, 14 VSS, 15 AGND, 16 VREF, 17 LDOA, 18 LDOD1, 19 TS1-, 20 TS1+, 21 CONV_S, 22 DRDY_S, 23 ALERT_S, 24 FAULT_S, 25 VSSD, 26 SCLK_S, 27 SDO_S, 28 SDI_S, 29 CS_S, 30 NC30, 31 AUX, 32 REG50, 33 VSS, 34 VSS, 35 VSS, 36 CONV_H, 37 DRDY_H, 38 ALERT_H, 39 FAULT_H, 40 SCLK_H, 41 SDO_H, 42 SDI_H, 43 CS_H, 44 HSEL, 45 GPIO, 46 LDOD2, 47 GPAI-, 48 GPAI+, 49 VSSD, 50 TEST, 51 NC51, 52 CS_N, 53 SDI_N, 54 SDO_N, 55 SCLK_N, 56 FAULT_N, 57 ALERT_N, 58 DRDY_N, 59 CONV_N, 60 TS2-, 61 TS2+, 62 NC62, 63 BAT1, 64 BAT2, 65 THERM

## TI BQ24600
designator U?, comment BQ24600
Li Ion Battery Charger IC
footprint BQ24600
pins: 1 VCC, 2 CE, 3 STAT, 4 TS, 5 PG, 6 VREF, 7 ISET, 8 VFB, 9 SRN, 10 SRP, 11 GND, 12 REGN, 13 LODRV, 14 PH, 15 HIDRV, 16 BTST

## TI LSF0108-Q1
designator U?, comment Logic Level Shifter
ComponentLink1Description: digikey; ComponentLink1URL: https://www.digikey.com/product-detail/en/texas-instruments/LSF0108QPWRQ1/296-44247-1-ND/6098479
footprint TSOP65P640X120-20N (TSOP, 20-Leads, Body 6.50x4.40mm, Pitch 0.65mm, IPC Medium Density)
pins: 1 GND, 2 Vref_A, 3 A1, 4 A2, 5 A3, 6 A4, 7 A5, 8 A6, 9 A7, 10 A8, 11 B8, 12 B7, 13 B6, 14 B5, 15 B4, 16 B3, 17 B2, 18 B1, 19 Vref_B, 20 EN

## TI SN74LVC1G08
designator U?, comment AND Gate
Single Package Dual Input AND Gate; ComponentLink1Description: digikey; ComponentLink1URL: https://www.digikey.com/product-detail/en/texas-instruments/SN74LVC1G08DCKR/296-11602-1-ND/385741
footprint 5-TSSOP (aka SC-70-5 or SOT-353)
pins: 1, 2, 3, 4, 5
text: A; Vcc; B; GND; Y

## TLE2426IDR
designator *
Vcc to Vcc/2 Rail Splitter
footprint SOIC-8
pins: 1 OUT, 2 COM, 3 IN, 4 NC, 5 NC, 6 NC, 7 NC, 8 NR
text: Rail Splitter

## TLV3701IDBVR
designator U?
IC COMPARATR NANOPWR P-P SOT23-5; Supplier 1: Digi-Key; Supplier Part Number 1: 296-38577-6-ND
footprint TLV3701IDBVR
pins: 1 Out (out), 2 GND (power), 3 In+ (in), 4 In- (in), 5 Vcc (power)
text: -; +

## TPS26600PWPT
designator U?, comment 60V eFuse
Electronic Fuse Regulator 2.35A 16-HTSSOP; ComponentLink1Description: Digikey; ComponentLink1URL: https://www.digikey.com/product-detail/en/texas-instruments/TPS26600PWPT/296-44810-1-ND/6204668
footprint TSOP65P640X120_HS-17N (TSOP, 16-Leads, Body 5.00x4.40mm, Pitch 0.65mm, Thermal Pad 2.16x2.66mm, IPC Medium Density)
pins: 1 IN, 2 IN, 3 UVLO, 4 N.C, 5 OVP, 6 MODE, 7 !SHDN, 8 RTN, 9 GND, 10 IMON, 11 ILIM, 12 dVdT, 13 N.C, 14 !FLT, 15 OUT, 16 OUT, 17 GND

## TPS61322DBZT
designator U*
5V synchronous boost converter / with only 6.5-µA quiescent current
footprint TPS61322DBZT
pins: 1 GND, 2 VOUT, 3 SW

## TXB0106
designator U?
6-Bit Bidirectional Voltage-Level Translator with Auto Direction Sensing and +/-15-kV ESD Protect; Part Creator: dgorzigl; Supplier 1: Digi-Key; Datasheet: http://www.ti.com/lit/ds/symlink/txb0106.pdf; Part Number: TXB0106; Supplier Part Number 1: 296-23759-2-ND
footprint SO-G16
pins: 1 A1, 2 VCCA, 3 A2, 4 A3, 5 A4, 6 A5, 7 A6, 8 OE, 9 GND, 10 B6, 11 B5, 12 B4, 13 B3, 14 B2, 15 VCCB, 16 B1

## ULN2803ADWR
designator U?, comment 296-15777-1-ND
TRANS 8NPN DARL 50V 0.5A 18SO; Manufacturer_Part_Number: ULN2803ADWR; Vendor: Texas Instruments; Built_By: EMA_UL_Team; C: Copyright (C) 2015 Accelerated Designs. All rights reserved; Manufacturer: Texas Instruments; RefDes: RefDes; Type: DEV; Value: Value; Supplier 1: Digi-Key; Supplier Part Number 1: 296-15777-1-ND
footprint DW18
pins: 1 1B (power), 2 2B (power), 3 3B (power), 4 4B (power), 5 5B (power), 6 6B (power), 7 7B (power), 8 8B (power), 9 GND (power), 10 COM, 11 8C (out), 12 7C (out), 13 6C (out), 14 5C (out), 15 4C (out), 16 3C (out), 17 2C (out), 18 1C (out)

## VN5016AJTR-E
designator U?  Supplier Part Number 1: 497-11675-2-ND
IC DVR 1CH HISID AUTO POWERSSO12; Supplier 1: Digi-Key; ComponentLink1Description: DigiKey Link; ComponentLink1URL: https://www.digikey.com/product-detail/en/stmicroelectronics/VN5016AJTR-E/497-11675-1-ND/2746904
footprint SOP80P600X162_HS-13N (SOP, 12-Leads, Body 4.90x3.90mm, Pitch 0.80mm, Thermal Pad 4.20x2.50mm, IPC Medium Density)
pins: 1 VCC (in), 2 GND (in), 3 INPUT (in), 4 CURR SENSE (out), 5 CS_DIS (in), 6 VCC (in), 7 OUT (out), 8 OUT (out), 9 OUT (out), 10 OUT (out), 11 OUT (out), 12 OUT (out), 13 VCC (in)